# EAGLE library part AD829JNZ (library AD829JNZ)
AD829JNZ, Video Amplifier, 8-Pin PDIP Source: Datasheet <http://docs-emea.rs-online.com/webdocs/077f/0900766b8077ff1b.pdf>
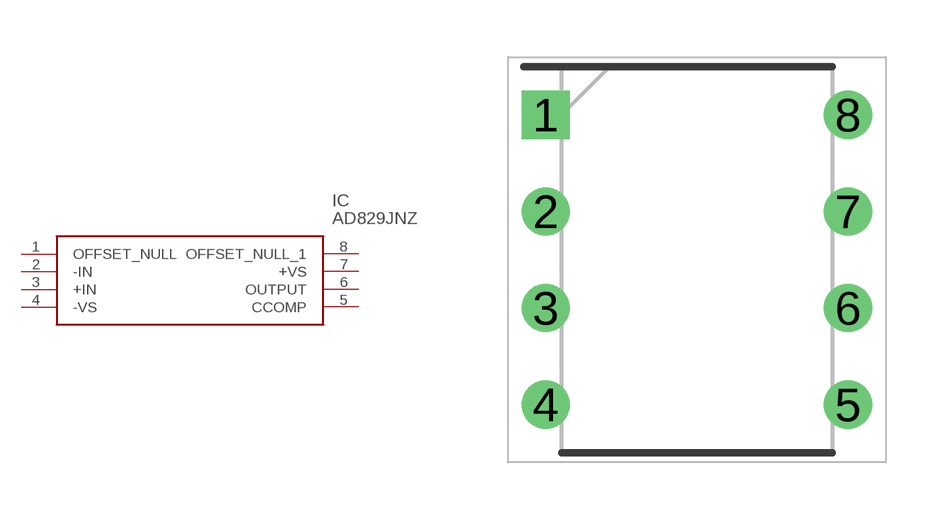
[diagram p0: symbol with the pads of DIP794W56P254L959H533Q8N; footprint DIP794W56P254L959H533Q8N]

Designator prefix IC

## AD829JNZ (Description: AD829JNZ, Video Amplifier, 8-Pin PDIP; Height: 5.33mm; Manufacturer_Name: Analog Devices; Manufacturer_Part_Number: AD829JNZ; Mouser_Part_Number: 584-AD829JNZ; Mouser_Price-Stock: https://www.mouser.com/Search/Refine.aspx?Keyword=584-AD829JNZ; RS_Part_Number: 5228512; RS_Price-Stock: http://uk.rs-online.com/web/p/video-amplifier-ics/5228512/?source=DS)  [DIP794W56P254L959H533Q8N]
1  OFFSET_NULL
2  -IN  in
3  +IN  in
4  -VS  pwr
5  CCOMP
6  OUTPUT  out
7  +VS  pwr
8  OFFSET_NULL_1

## Footprint DIP794W56P254L959H533Q8N (pad centres in mm)
N-8
drill 0.76 pad 1.16 square: 1 -3.97,3.81
drill 0.76 pad 1.16: 2 -3.97,1.27; 3 -3.97,-1.27; 4 -3.97,-3.81; 5 3.97,-3.81; 6 3.97,-1.27; 7 3.97,1.27; 8 3.97,3.81